# EAGLE library part PT7C4511 (library quadrature_generator)
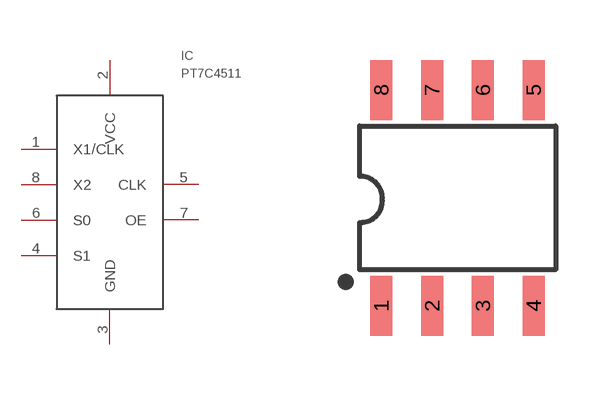
[diagram p3: symbol with the pads of SOIC8; footprint SOIC8]

Designator prefix IC

## PT7C4511  [SOIC8]
1  X1/CLK
2  VCC
3  GND
4  S1
5  CLK
6  S0
7  OE
8  X2

## Footprint SOIC8 (pad centres in mm)
smd 0.55 x 1.5: 1 -1.905,-2.7; 2 -0.635,-2.7; 3 0.635,-2.7; 4 1.905,-2.7; 5 1.905,2.7; 6 0.635,2.7; 7 -0.635,2.7; 8 -1.905,2.7